# Altium footprint library Capacitor_0805.PcbLib: 3 footprints
Each footprint in its own frame and in the unit in brackets; x right, y up, seen from the top. Pads: shape width x height; smd on the part's side, far side on the other; paste and mask are expansions set on the pad; w line width, h text height; cw(c..) or ccw(c..) is an arc to the next point about the centre after c.
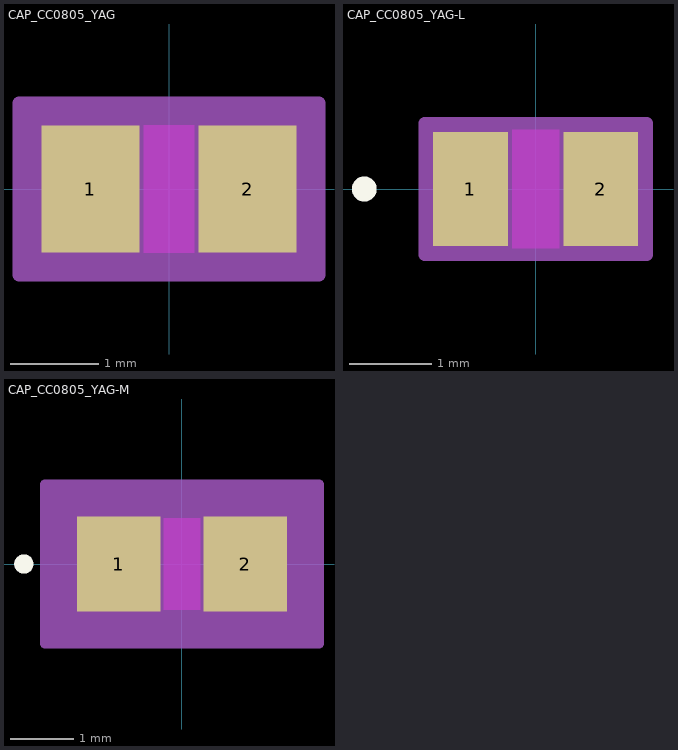
[diagram p0: the footprints below, top view; thin cyan lines are the x and y axes]

## CAP_CC0805_YAG [mil]
pads (2):
  rect 44x57 smd paste+0 mask+0: 1(-35.31,0) 2(35.31,0)
Top Layer keep-out:
  region: -11.31,-26.5 -11.31,26.5 11.31,26.5 11.31,-26.5
Keep-Out Layer:
  region: -11.31,-28.5 -11.31,28.5 11.31,28.5 11.31,-28.5
Mechanical 13:
  circle w0: c-30.31,0 r0
  lines w1: -43.31,-28.5 -43.31,28.5 ; -43.31,-28.5 -13.31,-28.5 -13.31,28.5 -43.31,28.5 ; -43.31,-28.5 43.31,-28.5 ; -43.31,-28.5 -43.31,28.5 ; -43.31,28.5 43.31,28.5 ; 43.31,-28.5 13.31,-28.5 13.31,28.5 43.31,28.5 ; 43.31,-28.5 43.31,28.5 ; 43.31,-28.5 43.31,28.5
Mechanical 15:
  region: 67.31,-38.5 -67.31,-38.5 -67.31,38.5 67.31,38.5
  lines w6: -67.31,-38.5 -67.31,38.5 67.31,38.5 67.31,-38.5 -67.31,-38.5
3D body "CAP_CC0805_YAG.step": height 57.01, standoff 0, extent -43.31,-28.5 43.31,28.5

## CAP_CC0805_YAG-L [mil]
pads (2):
  rect 36x55 smd paste+0 mask+0: 1(-31.31,0) 2(31.31,0)
Top Layer keep-out:
  region: -11.31,-26.5 -11.31,26.5 11.31,26.5 11.31,-26.5
Top Overlay:
  circle w6: c-82.31,0 r3
Keep-Out Layer:
  region: -11.31,-28.5 -11.31,28.5 11.31,28.5 11.31,-28.5
Mechanical 13:
  circle w0: c-26.31,0 r3
  lines w1: -43.31,-28.5 -43.31,28.5 ; -43.31,-28.5 -13.31,-28.5 -13.31,28.5 -43.31,28.5 ; -43.31,-28.5 43.31,-28.5 ; -43.31,-28.5 -43.31,28.5 ; -43.31,28.5 43.31,28.5 ; 43.31,-28.5 13.31,-28.5 13.31,28.5 43.31,28.5 ; 43.31,-28.5 43.31,28.5 ; 43.31,-28.5 43.31,28.5
Mechanical 15:
  region: 53.31,-31.5 -53.31,-31.5 -53.31,31.5 53.31,31.5
  lines w6: -53.31,-31.5 -53.31,31.5 53.31,31.5 53.31,-31.5 -53.31,-31.5
3D body "CAP_CC0805_YAG.step": height 57.01, standoff 0, extent -43.31,-28.5 43.31,28.5

## CAP_CC0805_YAG-M [mil]
pads (2):
  rect 52x59 smd paste+0 mask+0: 1(-39.31,0) 2(39.31,0)
Top Layer keep-out:
  region: -11.31,-26.5 -11.31,26.5 11.31,26.5 11.31,-26.5
Top Overlay:
  circle w6: c-98.31,0 r3
Keep-Out Layer:
  region: -11.31,-28.5 -11.31,28.5 11.31,28.5 11.31,-28.5
Mechanical 13:
  circle w0: c-34.31,0 r3
  lines w1: -43.31,-28.5 -43.31,28.5 ; -43.31,-28.5 -13.31,-28.5 -13.31,28.5 -43.31,28.5 ; -43.31,-28.5 43.31,-28.5 ; -43.31,-28.5 -43.31,28.5 ; -43.31,28.5 43.31,28.5 ; 43.31,-28.5 13.31,-28.5 13.31,28.5 43.31,28.5 ; 43.31,-28.5 43.31,28.5 ; 43.31,-28.5 43.31,28.5
Mechanical 15:
  region: 85.31,-49.5 -85.31,-49.5 -85.31,49.5 85.31,49.5
  lines w6: -85.31,-49.5 -85.31,49.5 85.31,49.5 85.31,-49.5 -85.31,-49.5
3D body "CAP_CC0805_YAG.step": height 57.01, standoff 0, extent -43.31,-28.5 43.31,28.5